# Altium schematic symbol library yampad_v2-rescue.SchLib: 2 symbols
Pins are listed as number, name and electrical type; pins without a type are passive.

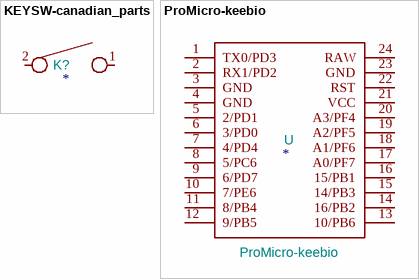
[diagram p0: symbols KEYSW-canadian_parts to ProMicro-keebio]

## KEYSW-canadian_parts
designator K?
Value: KEYSW-canadian_parts
pins: 1, 2

## ProMicro-keebio
designator U  value ProMicro-keebio
pins: 1 TX0/PD3, 2 RX1/PD2, 3 GND, 4 GND, 5 2/PD1, 6 3/PD0, 7 4/PD4, 8 5/PC6, 9 6/PD7, 10 7/PE6, 11 8/PB4, 12 9/PB5, 13 10/PB6, 14 16/PB2, 15 14/PB3, 16 15/PB1, 17 A0/PF7, 18 A1/PF6, 19 A2/PF5, 20 A3/PF4, 21 VCC, 22 RST, 23 GND, 24 RAW